# Altium integrated library AutonomousVehicle_Lib.IntLib: 12 symbols
Pins are listed as number, name and electrical type; pins without a type are passive.

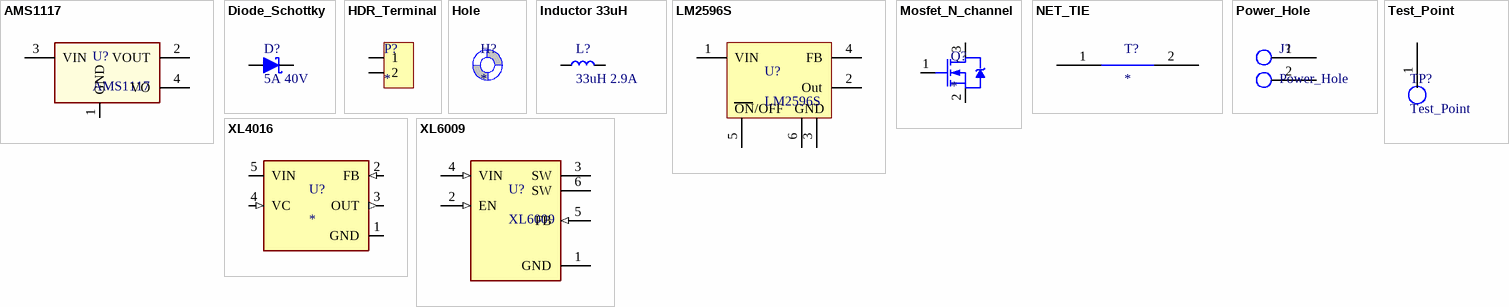
[diagram p0: symbols AMS1117 to XL6009]

## AMS1117
designator U?
IC Linear Drop Out 3.3V 1A SOT-223
footprint AMS1117
pins: 1 GND, 2 VOUT, 3 VIN (power), 4 VO

## Diode_Schottky
designator D?, comment 5A 40V
SS54 SMC Diode Schottky 5A 40V
footprint DO-214AB, SMC
footprint DO-214AB, SMA
pins: 1 A, 2 K

## HDR_Terminal
designator P?
HDR_Terminal 2 pin; Supplier: ThegioiIC; ComponentLink1Description: URL; ComponentLink1URL: https://www.thegioiic.com/kf128-2-v-domino-2-chan-thang-3-5mm-300v-10a-han-pcb
footprint HDR_Terminal_3.5mm
pins: 1, 2

## Hole
designator H?
Hole
footprint Hole_3.2mm
pins: 1 Screw

## Inductor 33uH
designator L?, comment 33uH 2.9A
Inductor SMD 1038-330 33uH 2.9A; Supplier1: ThegioiIC; ComponentLink1Description: URL1; ComponentLink1URL: https://www.thegioiic.com/cdrh127-cuon-cam-dan-smd-1280-330-33uh-4-2a
footprint CDRH127
pins: 1, 2

## LM2596S
designator U?
IC Switching Buck LM2596S-5.0.  TO-263-5; Supplier1: ThegioiIC; URL1: https://www.thegioiic.com/lm2596s-5-0-ic-dieu-chinh-giam-ap-5v-3a-to-263-5
footprint LM2596S
pins: 1 VIN, 2 Out, 3 GND, 4 FB, 5 ~{ON}/OFF, 6 PAD
text: ON/OFF

## Mosfet_N_channel
designator Q?
Mosfet_N_Channel
footprint MOSFET_N_SOT23-3
pins: 1 G, 2 S, 3 D

## NET_TIE
designator T?
Straight Net Tie
footprint NET_TIE_2.0mm
pins: 1, 2

## Power_Hole
designator J?
footprint Power_Hole_2mm_THT
pins: 1 0, 2 1

## Test_Point
designator TP?
footprint TP_1_5mm_SMD
pins: 1

## XL4016
designator U?
IC Switching Buck 8A TO-220-5
footprint XL4016_TO-220-5
pins: 1 GND (power), 2 FB (in), 3 OUT (out), 4 VC (in), 5 VIN (power)

## XL6009
designator U?
XL6009. IC Switching Boost 5A. TO-263-5; Supplier1: ThegioiIC; ComponentLink1Description: URL1; ComponentLink1URL: https://www.thegioiic.com/xl6009-ic-dieu-chinh-tang-ap-5a-to-263-5
footprint IC_XL6009
pins: 1 GND (power), 2 EN (in), 3 SW, 4 VIN (in), 5 FB (in), 6 SW